# Altium integrated library ALTIUM-WCAP-PSLP-rev17a.IntLib: 57 symbols
Pins are listed as number, name and electrical type; pins without a type are passive.

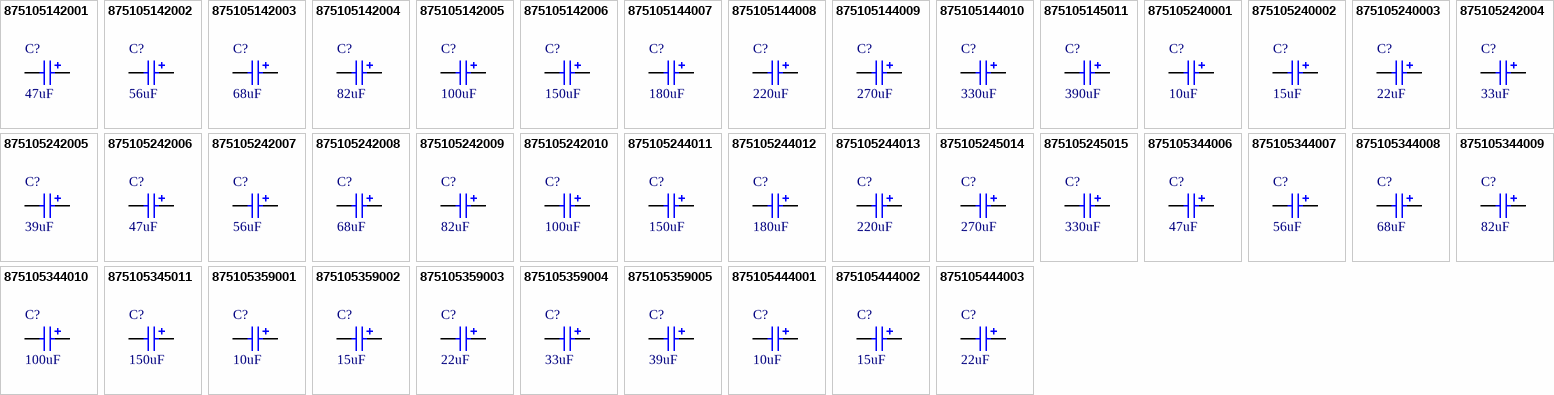
[diagram p0: symbols 875105142001 to 875105444003]

## 875105142001
designator C?  value 47uF
WCAP-PSLP Aluminum Polymer Capacitors, size Ф5x5.5mm, 6.3V DC, 47uF; Part Number: 875105142001; Rated Voltage: 6.3V DC; ComponentLink1Description: Manufacturer; ComponentLink1URL: http://www.we-online.de; ComponentLink2Description: Datasheet; ComponentLink2URL: http://katalog.we-online.de/pbs/datasheet/875105142001.pdf; Published Date: June 2017; Publisher: Wurth Elektronik; Size: Ф5x5.5mm; Life Cycle: 2000h; Operating Temperature: -55 °C up to +105 °C
footprint WCAP-PSLP_5x5.5
pins: 1 P, 2 N

## 875105142002
designator C?  value 56uF
WCAP-PSLP Aluminum Polymer Capacitors, size Ф5x5.5mm, 6.3V DC, 56uF; Part Number: 875105142002; Rated Voltage: 6.3V DC; ComponentLink1Description: Manufacturer; ComponentLink1URL: http://www.we-online.de; ComponentLink2Description: Datasheet; ComponentLink2URL: http://katalog.we-online.de/pbs/datasheet/875105142002.pdf; Published Date: June 2017; Publisher: Wurth Elektronik; Size: Ф5x5.5mm; Life Cycle: 2000h; Operating Temperature: -55 °C up to +105 °C
footprint WCAP-PSLP_5x5.5
pins: 1 P, 2 N

## 875105142003
designator C?  value 68uF
WCAP-PSLP Aluminum Polymer Capacitors, size Ф5x5.5mm, 6.3V DC, 68uF; Part Number: 875105142003; Rated Voltage: 6.3V DC; ComponentLink1Description: Manufacturer; ComponentLink1URL: http://www.we-online.de; ComponentLink2Description: Datasheet; ComponentLink2URL: http://katalog.we-online.de/pbs/datasheet/875105142003.pdf; Published Date: June 2017; Publisher: Wurth Elektronik; Size: Ф5x5.5mm; Life Cycle: 2000h; Operating Temperature: -55 °C up to +105 °C
footprint WCAP-PSLP_5x5.5
pins: 1 P, 2 N

## 875105142004
designator C?  value 82uF
WCAP-PSLP Aluminum Polymer Capacitors, size Ф5x5.5mm, 6.3V DC, 82uF; Part Number: 875105142004; Rated Voltage: 6.3V DC; ComponentLink1Description: Manufacturer; ComponentLink1URL: http://www.we-online.de; ComponentLink2Description: Datasheet; ComponentLink2URL: http://katalog.we-online.de/pbs/datasheet/875105142004.pdf; Published Date: June 2017; Publisher: Wurth Elektronik; Size: Ф5x5.5mm; Life Cycle: 2000h; Operating Temperature: -55 °C up to +105 °C
footprint WCAP-PSLP_5x5.5
pins: 1 P, 2 N

## 875105142005
designator C?  value 100uF
WCAP-PSLP Aluminum Polymer Capacitors, size Ф5x5.5mm, 6.3V DC, 100uF; Part Number: 875105142005; Rated Voltage: 6.3V DC; ComponentLink1Description: Manufacturer; ComponentLink1URL: http://www.we-online.de; ComponentLink2Description: Datasheet; ComponentLink2URL: http://katalog.we-online.de/pbs/datasheet/875105142005.pdf; Published Date: June 2017; Publisher: Wurth Elektronik; Size: Ф5x5.5mm; Life Cycle: 2000h; Operating Temperature: -55 °C up to +105 °C
footprint WCAP-PSLP_5x5.5
pins: 1 P, 2 N

## 875105142006
designator C?  value 150uF
WCAP-PSLP Aluminum Polymer Capacitors, size Ф5x5.5mm, 6.3V DC, 150uF; Part Number: 875105142006; Rated Voltage: 6.3V DC; ComponentLink1Description: Manufacturer; ComponentLink1URL: http://www.we-online.de; ComponentLink2Description: Datasheet; ComponentLink2URL: http://katalog.we-online.de/pbs/datasheet/875105142006.pdf; Published Date: June 2017; Publisher: Wurth Elektronik; Size: Ф5x5.5mm; Life Cycle: 2000h; Operating Temperature: -55 °C up to +105 °C
footprint WCAP-PSLP_5x5.5
pins: 1 P, 2 N

## 875105144007
designator C?  value 180uF
WCAP-PSLP Aluminum Polymer Capacitors, size Ф6.3x5.8mm, 6.3V DC, 180uF; Part Number: 875105144007; Rated Voltage: 6.3V DC; ComponentLink1Description: Manufacturer; ComponentLink1URL: http://www.we-online.de; ComponentLink2Description: Datasheet; ComponentLink2URL: http://katalog.we-online.de/pbs/datasheet/875105144007.pdf; Published Date: June 2017; Publisher: Wurth Elektronik; Size: Ф6.3x5.8mm; Life Cycle: 2000h; Operating Temperature: -55 °C up to +105 °C
footprint WCAP-PSLP_6.3x5.8
pins: 1 P, 2 N

## 875105144008
designator C?  value 220uF
WCAP-PSLP Aluminum Polymer Capacitors, size Ф6.3x5.8mm, 6.3V DC, 220uF; Part Number: 875105144008; Rated Voltage: 6.3V DC; ComponentLink1Description: Manufacturer; ComponentLink1URL: http://www.we-online.de; ComponentLink2Description: Datasheet; ComponentLink2URL: http://katalog.we-online.de/pbs/datasheet/875105144008.pdf; Published Date: June 2017; Publisher: Wurth Elektronik; Size: Ф6.3x5.8mm; Life Cycle: 2000h; Operating Temperature: -55 °C up to +105 °C
footprint WCAP-PSLP_6.3x5.8
pins: 1 P, 2 N

## 875105144009
designator C?  value 270uF
WCAP-PSLP Aluminum Polymer Capacitors, size Ф6.3x5.8mm, 6.3V DC, 270uF; Part Number: 875105144009; Rated Voltage: 6.3V DC; ComponentLink1Description: Manufacturer; ComponentLink1URL: http://www.we-online.de; ComponentLink2Description: Datasheet; ComponentLink2URL: http://katalog.we-online.de/pbs/datasheet/875105144009.pdf; Published Date: June 2017; Publisher: Wurth Elektronik; Size: Ф6.3x5.8mm; Life Cycle: 2000h; Operating Temperature: -55 °C up to +105 °C
footprint WCAP-PSLP_6.3x5.8
pins: 1 P, 2 N

## 875105144010
designator C?  value 330uF
WCAP-PSLP Aluminum Polymer Capacitors, size Ф6.3x5.8mm, 6.3V DC, 330uF; Part Number: 875105144010; Rated Voltage: 6.3V DC; ComponentLink1Description: Manufacturer; ComponentLink1URL: http://www.we-online.de; ComponentLink2Description: Datasheet; ComponentLink2URL: http://katalog.we-online.de/pbs/datasheet/875105144010.pdf; Published Date: June 2017; Publisher: Wurth Elektronik; Size: Ф6.3x5.8mm; Life Cycle: 2000h; Operating Temperature: -55 °C up to +105 °C
footprint WCAP-PSLP_6.3x5.8
pins: 1 P, 2 N

## 875105145011
designator C?  value 390uF
WCAP-PSLP Aluminum Polymer Capacitors, size Ф6.3x7.7mm, 6.3V DC, 390uF; Part Number: 875105145011; Rated Voltage: 6.3V DC; ComponentLink1Description: Manufacturer; ComponentLink1URL: http://www.we-online.de; ComponentLink2Description: Datasheet; ComponentLink2URL: http://katalog.we-online.de/pbs/datasheet/875105145011.pdf; Published Date: June 2017; Publisher: Wurth Elektronik; Size: Ф6.3x7.7mm; Life Cycle: 2000h; Operating Temperature: -55 °C up to +105 °C
footprint WCAP-PSLP_6.3x7.7
pins: 1 P, 2 N

## 875105240001
designator C?  value 10uF
WCAP-PSLP Aluminum Polymer Capacitors, size Ф4x5.5mm, 10V DC, 10uF; Part Number: 875105240001; Rated Voltage: 10V DC; ComponentLink1Description: Manufacturer; ComponentLink1URL: http://www.we-online.de; ComponentLink2Description: Datasheet; ComponentLink2URL: http://katalog.we-online.de/pbs/datasheet/875105240001.pdf; Published Date: June 2017; Publisher: Wurth Elektronik; Size: Ф4x5.5mm; Life Cycle: 2000h; Operating Temperature: -55 °C up to +105 °C
footprint WCAP-PSLP_4x5.5
pins: 1 P, 2 N

## 875105240002
designator C?  value 15uF
WCAP-PSLP Aluminum Polymer Capacitors, size Ф4x5.5mm, 10V DC, 15uF; Part Number: 875105240002; Rated Voltage: 10V DC; ComponentLink1Description: Manufacturer; ComponentLink1URL: http://www.we-online.de; ComponentLink2Description: Datasheet; ComponentLink2URL: http://katalog.we-online.de/pbs/datasheet/875105240002.pdf; Published Date: June 2017; Publisher: Wurth Elektronik; Size: Ф4x5.5mm; Life Cycle: 2000h; Operating Temperature: -55 °C up to +105 °C
footprint WCAP-PSLP_4x5.5
pins: 1 P, 2 N

## 875105240003
designator C?  value 22uF
WCAP-PSLP Aluminum Polymer Capacitors, size Ф4x5.5mm, 10V DC, 22uF; Part Number: 875105240003; Rated Voltage: 10V DC; ComponentLink1Description: Manufacturer; ComponentLink1URL: http://www.we-online.de; ComponentLink2Description: Datasheet; ComponentLink2URL: http://katalog.we-online.de/pbs/datasheet/875105240003.pdf; Published Date: June 2017; Publisher: Wurth Elektronik; Size: Ф4x5.5mm; Life Cycle: 2000h; Operating Temperature: -55 °C up to +105 °C
footprint WCAP-PSLP_4x5.5
pins: 1 P, 2 N

## 875105242004
designator C?  value 33uF
WCAP-PSLP Aluminum Polymer Capacitors, size Ф5x5.5mm, 10V DC, 33uF; Part Number: 875105242004; Rated Voltage: 10V DC; ComponentLink1Description: Manufacturer; ComponentLink1URL: http://www.we-online.de; ComponentLink2Description: Datasheet; ComponentLink2URL: http://katalog.we-online.de/pbs/datasheet/875105242004.pdf; Published Date: June 2017; Publisher: Wurth Elektronik; Size: Ф5x5.5mm; Life Cycle: 2000h; Operating Temperature: -55 °C up to +105 °C
footprint WCAP-PSLP_5x5.5
pins: 1 P, 2 N

## 875105242005
designator C?  value 39uF
WCAP-PSLP Aluminum Polymer Capacitors, size Ф5x5.5mm, 10V DC, 39uF; Part Number: 875105242005; Rated Voltage: 10V DC; ComponentLink1Description: Manufacturer; ComponentLink1URL: http://www.we-online.de; ComponentLink2Description: Datasheet; ComponentLink2URL: http://katalog.we-online.de/pbs/datasheet/875105242005.pdf; Published Date: June 2017; Publisher: Wurth Elektronik; Size: Ф5x5.5mm; Life Cycle: 2000h; Operating Temperature: -55 °C up to +105 °C
footprint WCAP-PSLP_5x5.5
pins: 1 P, 2 N

## 875105242006
designator C?  value 47uF
WCAP-PSLP Aluminum Polymer Capacitors, size Ф5x5.5mm, 10V DC, 47uF; Part Number: 875105242006; Rated Voltage: 10V DC; ComponentLink1Description: Manufacturer; ComponentLink1URL: http://www.we-online.de; ComponentLink2Description: Datasheet; ComponentLink2URL: http://katalog.we-online.de/pbs/datasheet/875105242006.pdf; Published Date: June 2017; Publisher: Wurth Elektronik; Size: Ф5x5.5mm; Life Cycle: 2000h; Operating Temperature: -55 °C up to +105 °C
footprint WCAP-PSLP_5x5.5
pins: 1 P, 2 N

## 875105242007
designator C?  value 56uF
WCAP-PSLP Aluminum Polymer Capacitors, size Ф5x5.5mm, 10V DC, 56uF; Part Number: 875105242007; Rated Voltage: 10V DC; ComponentLink1Description: Manufacturer; ComponentLink1URL: http://www.we-online.de; ComponentLink2Description: Datasheet; ComponentLink2URL: http://katalog.we-online.de/pbs/datasheet/875105242007.pdf; Published Date: June 2017; Publisher: Wurth Elektronik; Size: Ф5x5.5mm; Life Cycle: 2000h; Operating Temperature: -55 °C up to +105 °C
footprint WCAP-PSLP_5x5.5
pins: 1 P, 2 N

## 875105242008
designator C?  value 68uF
WCAP-PSLP Aluminum Polymer Capacitors, size Ф5x5.5mm, 10V DC, 68uF; Part Number: 875105242008; Rated Voltage: 10V DC; ComponentLink1Description: Manufacturer; ComponentLink1URL: http://www.we-online.de; ComponentLink2Description: Datasheet; ComponentLink2URL: http://katalog.we-online.de/pbs/datasheet/875105242008.pdf; Published Date: June 2017; Publisher: Wurth Elektronik; Size: Ф5x5.5mm; Life Cycle: 2000h; Operating Temperature: -55 °C up to +105 °C
footprint WCAP-PSLP_5x5.5
pins: 1 P, 2 N

## 875105242009
designator C?  value 82uF
WCAP-PSLP Aluminum Polymer Capacitors, size Ф5x5.5mm, 10V DC, 82uF; Part Number: 875105242009; Rated Voltage: 10V DC; ComponentLink1Description: Manufacturer; ComponentLink1URL: http://www.we-online.de; ComponentLink2Description: Datasheet; ComponentLink2URL: http://katalog.we-online.de/pbs/datasheet/875105242009.pdf; Published Date: June 2017; Publisher: Wurth Elektronik; Size: Ф5x5.5mm; Life Cycle: 2000h; Operating Temperature: -55 °C up to +105 °C
footprint WCAP-PSLP_5x5.5
pins: 1 P, 2 N

## 875105242010
designator C?  value 100uF
WCAP-PSLP Aluminum Polymer Capacitors, size Ф5x5.5mm, 10V DC, 100uF; Part Number: 875105242010; Rated Voltage: 10V DC; ComponentLink1Description: Manufacturer; ComponentLink1URL: http://www.we-online.de; ComponentLink2Description: Datasheet; ComponentLink2URL: http://katalog.we-online.de/pbs/datasheet/875105242010.pdf; Published Date: June 2017; Publisher: Wurth Elektronik; Size: Ф5x5.5mm; Life Cycle: 2000h; Operating Temperature: -55 °C up to +105 °C
footprint WCAP-PSLP_5x5.5
pins: 1 P, 2 N

## 875105244011
designator C?  value 150uF
WCAP-PSLP Aluminum Polymer Capacitors, size Ф6.3x5.8mm, 10V DC, 150uF; Part Number: 875105244011; Rated Voltage: 10V DC; ComponentLink1Description: Manufacturer; ComponentLink1URL: http://www.we-online.de; ComponentLink2Description: Datasheet; ComponentLink2URL: http://katalog.we-online.de/pbs/datasheet/875105244011.pdf; Published Date: June 2017; Publisher: Wurth Elektronik; Size: Ф6.3x5.8mm; Life Cycle: 2000h; Operating Temperature: -55 °C up to +105 °C
footprint WCAP-PSLP_6.3x5.8
pins: 1 P, 2 N

## 875105244012
designator C?  value 180uF
WCAP-PSLP Aluminum Polymer Capacitors, size Ф6.3x5.8mm, 10V DC, 180uF; Part Number: 875105244012; Rated Voltage: 10V DC; ComponentLink1Description: Manufacturer; ComponentLink1URL: http://www.we-online.de; ComponentLink2Description: Datasheet; ComponentLink2URL: http://katalog.we-online.de/pbs/datasheet/875105244012.pdf; Published Date: June 2017; Publisher: Wurth Elektronik; Size: Ф6.3x5.8mm; Life Cycle: 2000h; Operating Temperature: -55 °C up to +105 °C
footprint WCAP-PSLP_6.3x5.8
pins: 1 P, 2 N

## 875105244013
designator C?  value 220uF
WCAP-PSLP Aluminum Polymer Capacitors, size Ф6.3x5.8mm, 10V DC, 220uF; Part Number: 875105244013; Rated Voltage: 10V DC; ComponentLink1Description: Manufacturer; ComponentLink1URL: http://www.we-online.de; ComponentLink2Description: Datasheet; ComponentLink2URL: http://katalog.we-online.de/pbs/datasheet/875105244013.pdf; Published Date: June 2017; Publisher: Wurth Elektronik; Size: Ф6.3x5.8mm; Life Cycle: 2000h; Operating Temperature: -55 °C up to +105 °C
footprint WCAP-PSLP_6.3x5.8
pins: 1 P, 2 N

## 875105245014
designator C?  value 270uF
WCAP-PSLP Aluminum Polymer Capacitors, size Ф6.3x7.7mm, 10V DC, 270uF; Part Number: 875105245014; Rated Voltage: 10V DC; ComponentLink1Description: Manufacturer; ComponentLink1URL: http://www.we-online.de; ComponentLink2Description: Datasheet; ComponentLink2URL: http://katalog.we-online.de/pbs/datasheet/875105245014.pdf; Published Date: June 2017; Publisher: Wurth Elektronik; Size: Ф6.3x7.7mm; Life Cycle: 2000h; Operating Temperature: -55 °C up to +105 °C
footprint WCAP-PSLP_6.3x7.7
pins: 1 P, 2 N

## 875105245015
designator C?  value 330uF
WCAP-PSLP Aluminum Polymer Capacitors, size Ф6.3x7.7mm, 10V DC, 330uF; Part Number: 875105245015; Rated Voltage: 10V DC; ComponentLink1Description: Manufacturer; ComponentLink1URL: http://www.we-online.de; ComponentLink2Description: Datasheet; ComponentLink2URL: http://katalog.we-online.de/pbs/datasheet/875105245015.pdf; Published Date: June 2017; Publisher: Wurth Elektronik; Size: Ф6.3x7.7mm; Life Cycle: 2000h; Operating Temperature: -55 °C up to +105 °C
footprint WCAP-PSLP_6.3x7.7
pins: 1 P, 2 N

## 875105344006
designator C?  value 47uF
WCAP-PSLP Aluminum Polymer Capacitors, size Ф6.3x5.8mm, 16V DC, 47uF; Part Number: 875105344006; Rated Voltage: 16V DC; ComponentLink1Description: Manufacturer; ComponentLink1URL: http://www.we-online.de; ComponentLink2Description: Datasheet; ComponentLink2URL: http://katalog.we-online.de/pbs/datasheet/875105344006.pdf; Published Date: June 2017; Publisher: Wurth Elektronik; Size: Ф6.3x5.8mm; Life Cycle: 2000h; Operating Temperature: -55 °C up to +105 °C
footprint WCAP-PSLP_6.3x5.8
pins: 1 P, 2 N

## 875105344007
designator C?  value 56uF
WCAP-PSLP Aluminum Polymer Capacitors, size Ф6.3x5.8mm, 16V DC, 56uF; Part Number: 875105344007; Rated Voltage: 16V DC; ComponentLink1Description: Manufacturer; ComponentLink1URL: http://www.we-online.de; ComponentLink2Description: Datasheet; ComponentLink2URL: http://katalog.we-online.de/pbs/datasheet/875105344007.pdf; Published Date: June 2017; Publisher: Wurth Elektronik; Size: Ф6.3x5.8mm; Life Cycle: 2000h; Operating Temperature: -55 °C up to +105 °C
footprint WCAP-PSLP_6.3x5.8
pins: 1 P, 2 N

## 875105344008
designator C?  value 68uF
WCAP-PSLP Aluminum Polymer Capacitors, size Ф6.3x5.8mm, 16V DC, 68uF; Part Number: 875105344008; Rated Voltage: 16V DC; ComponentLink1Description: Manufacturer; ComponentLink1URL: http://www.we-online.de; ComponentLink2Description: Datasheet; ComponentLink2URL: http://katalog.we-online.de/pbs/datasheet/875105344008.pdf; Published Date: June 2017; Publisher: Wurth Elektronik; Size: Ф6.3x5.8mm; Life Cycle: 2000h; Operating Temperature: -55 °C up to +105 °C
footprint WCAP-PSLP_6.3x5.8
pins: 1 P, 2 N

## 875105344009
designator C?  value 82uF
WCAP-PSLP Aluminum Polymer Capacitors, size Ф6.3x5.8mm, 16V DC, 82uF; Part Number: 875105344009; Rated Voltage: 16V DC; ComponentLink1Description: Manufacturer; ComponentLink1URL: http://www.we-online.de; ComponentLink2Description: Datasheet; ComponentLink2URL: http://katalog.we-online.de/pbs/datasheet/875105344009.pdf; Published Date: June 2017; Publisher: Wurth Elektronik; Size: Ф6.3x5.8mm; Life Cycle: 2000h; Operating Temperature: -55 °C up to +105 °C
footprint WCAP-PSLP_6.3x5.8
pins: 1 P, 2 N

## 875105344010
designator C?  value 100uF
WCAP-PSLP Aluminum Polymer Capacitors, size Ф6.3x5.8mm, 16V DC, 100uF; Part Number: 875105344010; Rated Voltage: 16V DC; ComponentLink1Description: Manufacturer; ComponentLink1URL: http://www.we-online.de; ComponentLink2Description: Datasheet; ComponentLink2URL: http://katalog.we-online.de/pbs/datasheet/875105344010.pdf; Published Date: June 2017; Publisher: Wurth Elektronik; Size: Ф6.3x5.8mm; Life Cycle: 2000h; Operating Temperature: -55 °C up to +105 °C
footprint WCAP-PSLP_6.3x5.8
pins: 1 P, 2 N

## 875105345011
designator C?  value 150uF
WCAP-PSLP Aluminum Polymer Capacitors, size Ф6.3x7.7mm, 16V DC, 150uF; Part Number: 875105345011; Rated Voltage: 16V DC; ComponentLink1Description: Manufacturer; ComponentLink1URL: http://www.we-online.de; ComponentLink2Description: Datasheet; ComponentLink2URL: http://katalog.we-online.de/pbs/datasheet/875105345011.pdf; Published Date: June 2017; Publisher: Wurth Elektronik; Size: Ф6.3x7.7mm; Life Cycle: 2000h; Operating Temperature: -55 °C up to +105 °C
footprint WCAP-PSLP_6.3x7.7
pins: 1 P, 2 N

## 875105359001
designator C?  value 10uF
WCAP-PSLP Aluminum Polymer Capacitors, size Ф5x5.8mm, 16V DC, 10uF; Part Number: 875105359001; Rated Voltage: 16V DC; ComponentLink1Description: Manufacturer; ComponentLink1URL: http://www.we-online.de; ComponentLink2Description: Datasheet; ComponentLink2URL: http://katalog.we-online.de/pbs/datasheet/875105359001.pdf; Published Date: June 2017; Publisher: Wurth Elektronik; Size: Ф5x5.8mm; Life Cycle: 2000h; Operating Temperature: -55 °C up to +105 °C
footprint WCAP-PSLP_5x5.8
pins: 1 P, 2 N

## 875105359002
designator C?  value 15uF
WCAP-PSLP Aluminum Polymer Capacitors, size Ф5x5.8mm, 16V DC, 15uF; Part Number: 875105359002; Rated Voltage: 16V DC; ComponentLink1Description: Manufacturer; ComponentLink1URL: http://www.we-online.de; ComponentLink2Description: Datasheet; ComponentLink2URL: http://katalog.we-online.de/pbs/datasheet/875105359002.pdf; Published Date: June 2017; Publisher: Wurth Elektronik; Size: Ф5x5.8mm; Life Cycle: 2000h; Operating Temperature: -55 °C up to +105 °C
footprint WCAP-PSLP_5x5.8 (Aluminium Polymer V-Chip SMT Capacitors, Ф5x5.8mm)
pins: 1 P, 2 N

## 875105359003
designator C?  value 22uF
WCAP-PSLP Aluminum Polymer Capacitors, size Ф5x5.8mm, 16V DC, 22uF; Part Number: 875105359003; Rated Voltage: 16V DC; ComponentLink1Description: Manufacturer; ComponentLink1URL: http://www.we-online.de; ComponentLink2Description: Datasheet; ComponentLink2URL: http://katalog.we-online.de/pbs/datasheet/875105359003.pdf; Published Date: June 2017; Publisher: Wurth Elektronik; Size: Ф5x5.8mm; Life Cycle: 2000h; Operating Temperature: -55 °C up to +105 °C
footprint WCAP-PSLP_5x5.8
pins: 1 P, 2 N

## 875105359004
designator C?  value 33uF
WCAP-PSLP Aluminum Polymer Capacitors, size Ф5x5.8mm, 16V DC, 33uF; Part Number: 875105359004; Rated Voltage: 16V DC; ComponentLink1Description: Manufacturer; ComponentLink1URL: http://www.we-online.de; ComponentLink2Description: Datasheet; ComponentLink2URL: http://katalog.we-online.de/pbs/datasheet/875105359004.pdf; Published Date: June 2017; Publisher: Wurth Elektronik; Size: Ф5x5.8mm; Life Cycle: 2000h; Operating Temperature: -55 °C up to +105 °C
footprint WCAP-PSLP_5x5.8
pins: 1 P, 2 N

## 875105359005
designator C?  value 39uF
WCAP-PSLP Aluminum Polymer Capacitors, size Ф5x5.8mm, 16V DC, 39uF; Part Number: 875105359005; Rated Voltage: 16V DC; ComponentLink1Description: Manufacturer; ComponentLink1URL: http://www.we-online.de; ComponentLink2Description: Datasheet; ComponentLink2URL: http://katalog.we-online.de/pbs/datasheet/875105359005.pdf; Published Date: June 2017; Publisher: Wurth Elektronik; Size: Ф5x5.8mm; Life Cycle: 2000h; Operating Temperature: -55 °C up to +105 °C
footprint WCAP-PSLP_5x5.8
pins: 1 P, 2 N

## 875105444001
designator C?  value 10uF
WCAP-PSLP Aluminum Polymer Capacitors, size Ф6.3x5.8mm, 20V DC, 10uF; Part Number: 875105444001; Rated Voltage: 20V DC; ComponentLink1Description: Manufacturer; ComponentLink1URL: http://www.we-online.de; ComponentLink2Description: Datasheet; ComponentLink2URL: http://katalog.we-online.de/pbs/datasheet/875105444001.pdf; Published Date: June 2017; Publisher: Wurth Elektronik; Size: Ф6.3x5.8mm; Life Cycle: 2000h; Operating Temperature: -55 °C up to +105 °C
footprint WCAP-PSLP_6.3x5.8
pins: 1 P, 2 N

## 875105444002
designator C?  value 15uF
WCAP-PSLP Aluminum Polymer Capacitors, size Ф6.3x5.8mm, 20V DC, 15uF; Part Number: 875105444002; Rated Voltage: 20V DC; ComponentLink1Description: Manufacturer; ComponentLink1URL: http://www.we-online.de; ComponentLink2Description: Datasheet; ComponentLink2URL: http://katalog.we-online.de/pbs/datasheet/875105444002.pdf; Published Date: June 2017; Publisher: Wurth Elektronik; Size: Ф6.3x5.8mm; Life Cycle: 2000h; Operating Temperature: -55 °C up to +105 °C
footprint WCAP-PSLP_6.3x5.8
pins: 1 P, 2 N

## 875105444003
designator C?  value 22uF
WCAP-PSLP Aluminum Polymer Capacitors, size Ф6.3x5.8mm, 20V DC, 22uF; Part Number: 875105444003; Rated Voltage: 20V DC; ComponentLink1Description: Manufacturer; ComponentLink1URL: http://www.we-online.de; ComponentLink2Description: Datasheet; ComponentLink2URL: http://katalog.we-online.de/pbs/datasheet/875105444003.pdf; Published Date: June 2017; Publisher: Wurth Elektronik; Size: Ф6.3x5.8mm; Life Cycle: 2000h; Operating Temperature: -55 °C up to +105 °C
footprint WCAP-PSLP_6.3x5.8
pins: 1 P, 2 N

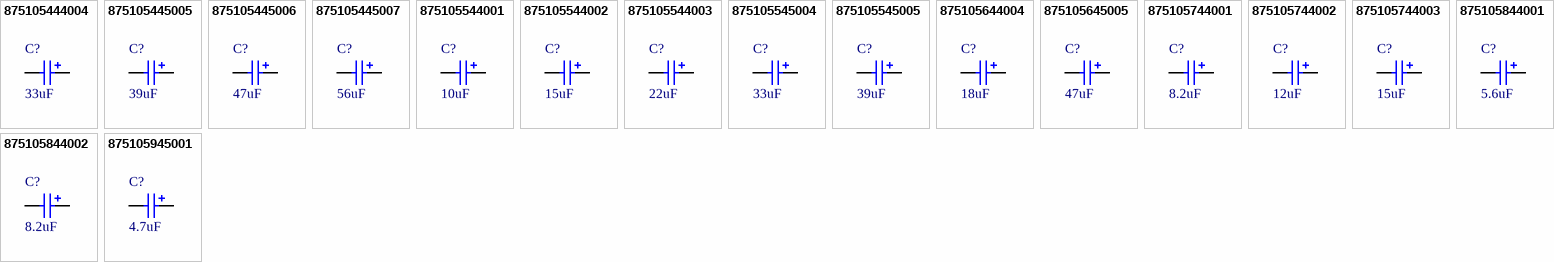
[diagram p1: symbols 875105444004 to 875105945001]

## 875105444004
designator C?  value 33uF
WCAP-PSLP Aluminum Polymer Capacitors, size Ф6.3x5.8mm, 20V DC, 33uF; Part Number: 875105444004; Rated Voltage: 20V DC; ComponentLink1Description: Manufacturer; ComponentLink1URL: http://www.we-online.de; ComponentLink2Description: Datasheet; ComponentLink2URL: http://katalog.we-online.de/pbs/datasheet/875105444004.pdf; Published Date: June 2017; Publisher: Wurth Elektronik; Size: Ф6.3x5.8mm; Life Cycle: 2000h; Operating Temperature: -55 °C up to +105 °C
footprint WCAP-PSLP_6.3x5.8
pins: 1 P, 2 N

## 875105445005
designator C?  value 39uF
WCAP-PSLP Aluminum Polymer Capacitors, size Ф6.3x7.7mm, 20V DC, 39uF; Part Number: 875105445005; Rated Voltage: 20V DC; ComponentLink1Description: Manufacturer; ComponentLink1URL: http://www.we-online.de; ComponentLink2Description: Datasheet; ComponentLink2URL: http://katalog.we-online.de/pbs/datasheet/875105445005.pdf; Published Date: June 2017; Publisher: Wurth Elektronik; Size: Ф6.3x7.7mm; Life Cycle: 2000h; Operating Temperature: -55 °C up to +105 °C
footprint WCAP-PSLP_6.3x7.7
pins: 1 P, 2 N

## 875105445006
designator C?  value 47uF
WCAP-PSLP Aluminum Polymer Capacitors, size Ф6.3x7.7mm, 20V DC, 47uF; Part Number: 875105445006; Rated Voltage: 20V DC; ComponentLink1Description: Manufacturer; ComponentLink1URL: http://www.we-online.de; ComponentLink2Description: Datasheet; ComponentLink2URL: http://katalog.we-online.de/pbs/datasheet/875105445006.pdf; Published Date: June 2017; Publisher: Wurth Elektronik; Size: Ф6.3x7.7mm; Life Cycle: 2000h; Operating Temperature: -55 °C up to +105 °C
footprint WCAP-PSLP_6.3x7.7
pins: 1 P, 2 N

## 875105445007
designator C?  value 56uF
WCAP-PSLP Aluminum Polymer Capacitors, size Ф6.3x7.7mm, 20V DC, 56uF; Part Number: 875105445007; Rated Voltage: 20V DC; ComponentLink1Description: Manufacturer; ComponentLink1URL: http://www.we-online.de; ComponentLink2Description: Datasheet; ComponentLink2URL: http://katalog.we-online.de/pbs/datasheet/875105445007.pdf; Published Date: June 2017; Publisher: Wurth Elektronik; Size: Ф6.3x7.7mm; Life Cycle: 2000h; Operating Temperature: -55 °C up to +105 °C
footprint WCAP-PSLP_6.3x7.7
pins: 1 P, 2 N

## 875105544001
designator C?  value 10uF
WCAP-PSLP Aluminum Polymer Capacitors, size Ф6.3x5.8mm, 25V DC, 10uF; Part Number: 875105544001; Rated Voltage: 25V DC; ComponentLink1Description: Manufacturer; ComponentLink1URL: http://www.we-online.de; ComponentLink2Description: Datasheet; ComponentLink2URL: http://katalog.we-online.de/pbs/datasheet/875105544001.pdf; Published Date: June 2017; Publisher: Wurth Elektronik; Size: Ф6.3x5.8mm; Life Cycle: 2000h; Operating Temperature: -55 °C up to +105 °C
footprint WCAP-PSLP_6.3x5.8
pins: 1 P, 2 N

## 875105544002
designator C?  value 15uF
WCAP-PSLP Aluminum Polymer Capacitors, size Ф6.3x5.8mm, 25V DC, 15uF; Part Number: 875105544002; Rated Voltage: 25V DC; ComponentLink1Description: Manufacturer; ComponentLink1URL: http://www.we-online.de; ComponentLink2Description: Datasheet; ComponentLink2URL: http://katalog.we-online.de/pbs/datasheet/875105544002.pdf; Published Date: June 2017; Publisher: Wurth Elektronik; Size: Ф6.3x5.8mm; Life Cycle: 2000h; Operating Temperature: -55 °C up to +105 °C
footprint WCAP-PSLP_6.3x5.8
pins: 1 P, 2 N

## 875105544003
designator C?  value 22uF
WCAP-PSLP Aluminum Polymer Capacitors, size Ф6.3x5.8mm, 25V DC, 22uF; Part Number: 875105544003; Rated Voltage: 25V DC; ComponentLink1Description: Manufacturer; ComponentLink1URL: http://www.we-online.de; ComponentLink2Description: Datasheet; ComponentLink2URL: http://katalog.we-online.de/pbs/datasheet/875105544003.pdf; Published Date: June 2017; Publisher: Wurth Elektronik; Size: Ф6.3x5.8mm; Life Cycle: 2000h; Operating Temperature: -55 °C up to +105 °C
footprint WCAP-PSLP_6.3x5.8
pins: 1 P, 2 N

## 875105545004
designator C?  value 33uF
WCAP-PSLP Aluminum Polymer Capacitors, size Ф6.3x7.7mm, 25V DC, 33uF; Part Number: 875105545004; Rated Voltage: 25V DC; ComponentLink1Description: Manufacturer; ComponentLink1URL: http://www.we-online.de; ComponentLink2Description: Datasheet; ComponentLink2URL: http://katalog.we-online.de/pbs/datasheet/875105545004.pdf; Published Date: June 2017; Publisher: Wurth Elektronik; Size: Ф6.3x7.7mm; Life Cycle: 2000h; Operating Temperature: -55 °C up to +105 °C
footprint WCAP-PSLP_6.3x7.7
pins: 1 P, 2 N

## 875105545005
designator C?  value 39uF
WCAP-PSLP Aluminum Polymer Capacitors, size Ф6.3x7.7mm, 25V DC, 39uF; Part Number: 875105545005; Rated Voltage: 25V DC; ComponentLink1Description: Manufacturer; ComponentLink1URL: http://www.we-online.de; ComponentLink2Description: Datasheet; ComponentLink2URL: http://katalog.we-online.de/pbs/datasheet/875105545005.pdf; Published Date: June 2017; Publisher: Wurth Elektronik; Size: Ф6.3x7.7mm; Life Cycle: 2000h; Operating Temperature: -55 °C up to +105 °C
footprint WCAP-PSLP_6.3x7.7
pins: 1 P, 2 N

## 875105644004
designator C?  value 18uF
WCAP-PSLP Aluminum Polymer Capacitors, size Ф6.3x5.8mm, 35V DC, 18uF; Part Number: 875105644004; Rated Voltage: 35V DC; ComponentLink1Description: Manufacturer; ComponentLink1URL: http://www.we-online.de; ComponentLink2Description: Datasheet; ComponentLink2URL: http://katalog.we-online.de/pbs/datasheet/875105644004.pdf; Published Date: June 2017; Publisher: Wurth Elektronik; Size: Ф6.3x5.8mm; Life Cycle: 2000h; Operating Temperature: -55 °C up to +105 °C
footprint WCAP-PSLP_6.3x5.8
pins: 1 P, 2 N

## 875105645005
designator C?  value 47uF
WCAP-PSLP Aluminum Polymer Capacitors, size Ф6.3x7.7mm, 35V DC, 47uF; Part Number: 875105645005; Rated Voltage: 35V DC; ComponentLink1Description: Manufacturer; ComponentLink1URL: http://www.we-online.de; ComponentLink2Description: Datasheet; ComponentLink2URL: http://katalog.we-online.de/pbs/datasheet/875105645005.pdf; Published Date: June 2017; Publisher: Wurth Elektronik; Size: Ф6.3x7.7mm; Life Cycle: 2000h; Operating Temperature: -55 °C up to +105 °C
footprint WCAP-PSLP_6.3x7.7
pins: 1 P, 2 N

## 875105744001
designator C?  value 8.2uF
WCAP-PSLP Aluminum Polymer Capacitors, size Ф6.3x5.8mm, 50V DC, 8.2uF; Part Number: 875105744001; Rated Voltage: 50V DC; ComponentLink1Description: Manufacturer; ComponentLink1URL: http://www.we-online.de; ComponentLink2Description: Datasheet; ComponentLink2URL: http://katalog.we-online.de/pbs/datasheet/875105744001.pdf; Published Date: June 2017; Publisher: Wurth Elektronik; Size: Ф6.3x5.8mm; Life Cycle: 2000h; Operating Temperature: -55 °C up to +105 °C
footprint WCAP-PSLP_6.3x5.8
pins: 1 P, 2 N

## 875105744002
designator C?  value 12uF
WCAP-PSLP Aluminum Polymer Capacitors, size Ф6.3x5.8mm, 50V DC, 12uF; Part Number: 875105744002; Rated Voltage: 50V DC; ComponentLink1Description: Manufacturer; ComponentLink1URL: http://www.we-online.de; ComponentLink2Description: Datasheet; ComponentLink2URL: http://katalog.we-online.de/pbs/datasheet/875105744002.pdf; Published Date: June 2017; Publisher: Wurth Elektronik; Size: Ф6.3x5.8mm; Life Cycle: 2000h; Operating Temperature: -55 °C up to +105 °C
footprint WCAP-PSLP_6.3x5.8
pins: 1 P, 2 N

## 875105744003
designator C?  value 15uF
WCAP-PSLP Aluminum Polymer Capacitors, size Ф6.3x5.8mm, 50V DC, 15uF; Part Number: 875105744003; Rated Voltage: 50V DC; ComponentLink1Description: Manufacturer; ComponentLink1URL: http://www.we-online.de; ComponentLink2Description: Datasheet; ComponentLink2URL: http://katalog.we-online.de/pbs/datasheet/875105744003.pdf; Published Date: June 2017; Publisher: Wurth Elektronik; Size: Ф6.3x5.8mm; Life Cycle: 2000h; Operating Temperature: -55 °C up to +105 °C
footprint WCAP-PSLP_6.3x5.8
pins: 1 P, 2 N

## 875105844001
designator C?  value 5.6uF
WCAP-PSLP Aluminum Polymer Capacitors, size Ф6.3x5.8mm, 63V DC, 5.6uF; Part Number: 875105844001; Rated Voltage: 63V DC; ComponentLink1Description: Manufacturer; ComponentLink1URL: http://www.we-online.de; ComponentLink2Description: Datasheet; ComponentLink2URL: http://katalog.we-online.de/pbs/datasheet/875105844001.pdf; Published Date: June 2017; Publisher: Wurth Elektronik; Size: Ф6.3x5.8mm; Life Cycle: 2000h; Operating Temperature: -55 °C up to +105 °C
footprint WCAP-PSLP_6.3x5.8
pins: 1 P, 2 N

## 875105844002
designator C?  value 8.2uF
WCAP-PSLP Aluminum Polymer Capacitors, size Ф6.3x5.8mm, 63V DC, 8.2uF; Part Number: 875105844002; Rated Voltage: 63V DC; ComponentLink1Description: Manufacturer; ComponentLink1URL: http://www.we-online.de; ComponentLink2Description: Datasheet; ComponentLink2URL: http://katalog.we-online.de/pbs/datasheet/875105844002.pdf; Published Date: June 2017; Publisher: Wurth Elektronik; Size: Ф6.3x5.8mm; Life Cycle: 2000h; Operating Temperature: -55 °C up to +105 °C
footprint WCAP-PSLP_6.3x5.8
pins: 1 P, 2 N

## 875105945001
designator C?  value 4.7uF
WCAP-PSLP Aluminum Polymer Capacitors, size Ф6.3x7.7mm, 100V DC, 4.7uF; Part Number: 875105945001; Rated Voltage: 100V DC; ComponentLink1Description: Manufacturer; ComponentLink1URL: http://www.we-online.de; ComponentLink2Description: Datasheet; ComponentLink2URL: http://katalog.we-online.de/pbs/datasheet/875105945001.pdf; Published Date: June 2017; Publisher: Wurth Elektronik; Size: Ф6.3x7.7mm; Life Cycle: 2000h; Operating Temperature: -55 °C up to +105 °C
footprint WCAP-PSLP_6.3x7.7
pins: 1 P, 2 N